# Altium footprint library CONN_HDR_2.54MM_ST.PcbLib: 159 footprints (part 13 of 13)
Each footprint in its own frame and in the unit in brackets; x right, y up, seen from the top. Pads: shape width x height; smd on the part's side, far side on the other; paste and mask are expansions set on the pad; w line width, h text height; cw(c..) or ccw(c..) is an arc to the next point about the centre after c.
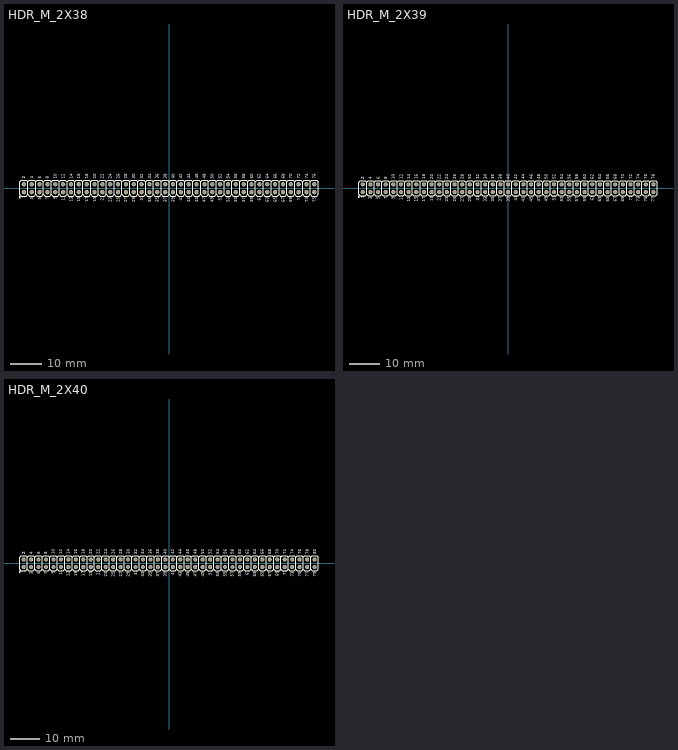
[diagram p12: the footprints below, top view; thin cyan lines are the x and y axes]

## HDR_M_2X38 [mm] "Male Header 2X38 with 2.54 mm Pitch"
pads (76):
  round 1.4 / inner round 1.4 / far side oval 1.4x2.2 hole 1: 1(-46.99,-1.27) 2(-46.99,1.27) 3(-44.45,-1.27) 4(-44.45,1.27) 5(-41.91,-1.27) 6(-41.91,1.27) 7(-39.37,-1.27) 8(-39.37,1.27) 9(-36.83,-1.27) 10(-36.83,1.27) 11(-34.29,-1.27) 12(-34.29,1.27) 13(-31.75,-1.27) 14(-31.75,1.27) 15(-29.21,-1.27) 16(-29.21,1.27) 17(-26.67,-1.27) 18(-26.67,1.27) 19(-24.13,-1.27) 20(-24.13,1.27) 21(-21.59,-1.27) 22(-21.59,1.27) 23(-19.05,-1.27) 24(-19.05,1.27) 25(-16.51,-1.27) 26(-16.51,1.27) 27(-13.97,-1.27) 28(-13.97,1.27) 29(-11.43,-1.27) 30(-11.43,1.27) 31(-8.89,-1.27) 32(-8.89,1.27) 33(-6.35,-1.27) 34(-6.35,1.27) 35(-3.81,-1.27) 36(-3.81,1.27) 37(-1.27,-1.27) 38(-1.27,1.27) 39(1.27,-1.27) 40(1.27,1.27) 41(3.81,-1.27) 42(3.81,1.27) 43(6.35,-1.27) 44(6.35,1.27) 45(8.89,-1.27) 46(8.89,1.27) 47(11.43,-1.27) 48(11.43,1.27) 49(13.97,-1.27) 50(13.97,1.27) 51(16.51,-1.27) 52(16.51,1.27) 53(19.05,-1.27) 54(19.05,1.27) 55(21.59,-1.27) 56(21.59,1.27) 57(24.13,-1.27) 58(24.13,1.27) 59(26.67,-1.27) 60(26.67,1.27) 61(29.21,-1.27) 62(29.21,1.27) 63(31.75,-1.27) 64(31.75,1.27) 65(34.29,-1.27) 66(34.29,1.27) 67(36.83,-1.27) 68(36.83,1.27) 69(39.37,-1.27) 70(39.37,1.27) 71(41.91,-1.27) 72(41.91,1.27) 73(44.45,-1.27) 74(44.45,1.27) 75(46.99,-1.27) 76(46.99,1.27)
TopOverlay:
  drawing of 268 lines, arcs and shapes, not listed
  text "1" at -46.482,-3.253 h1
  text "2" at -46.482,3.048 h1
  text "2" at -46.482,3.048 h1
  text "1" at -46.482,-3.253 h1
  text "4" at -43.942,3.048 h1
  text "3" at -43.942,-3.682 h1
  text "6" at -41.402,3.048 h1
  text "5" at -41.402,-3.682 h1
  text "8" at -38.862,3.048 h1
  text "7" at -38.862,-3.682 h1
  text "10" at -36.322,3.048 h1
  text "9" at -36.322,-3.634 h1
  text "12" at -33.782,3.048 h1
  text "11" at -33.782,-3.986 h1
  text "14" at -31.242,3.048 h1
  text "13" at -31.242,-4.415 h1
  text "16" at -28.702,3.048 h1
  text "15" at -28.702,-4.415 h1
  text "18" at -26.162,3.048 h1
  text "17" at -26.162,-4.415 h1
  text "20" at -23.622,3.048 h1
  text "19" at -23.622,-4.367 h1
  text "22" at -21.082,3.048 h1
  text "21" at -21.082,-4.144 h1
  text "24" at -18.542,3.048 h1
  text "23" at -18.542,-4.572 h1
  text "26" at -16.002,3.048 h1
  text "25" at -16.002,-4.572 h1
  text "28" at -13.462,3.048 h1
  text "27" at -13.462,-4.572 h1
  text "30" at -10.922,3.048 h1
  text "29" at -10.922,-4.524 h1
  text "32" at -8.382,3.048 h1
  text "31" at -8.382,-4.144 h1
  text "34" at -5.842,3.048 h1
  text "33" at -5.842,-4.572 h1
  text "36" at -3.302,3.048 h1
  text "35" at -3.302,-4.572 h1
  text "38" at -0.762,3.048 h1
  text "37" at -0.762,-4.572 h1
  text "40" at 1.778,3.048 h1
  text "39" at 1.778,-4.524 h1
  text "42" at 4.318,3.048 h1
  text "41" at 4.318,-4.144 h1
  text "44" at 6.858,3.048 h1
  text "43" at 6.858,-4.572 h1
  text "46" at 9.398,3.048 h1
  text "45" at 9.398,-4.572 h1
  text "48" at 11.938,3.048 h1
  text "47" at 11.938,-4.572 h1
  text "50" at 14.478,3.048 h1
  text "49" at 14.478,-4.524 h1
  text "52" at 17.018,3.048 h1
  text "51" at 17.018,-4.144 h1
  text "54" at 19.558,3.048 h1
  text "53" at 19.558,-4.572 h1
  text "56" at 22.098,3.048 h1
  text "55" at 22.098,-4.572 h1
  text "58" at 24.638,3.048 h1
  text "57" at 24.638,-4.572 h1
  text "60" at 27.178,3.048 h1
  text "59" at 27.178,-4.524 h1
  text "62" at 29.718,3.048 h1
  text "61" at 29.718,-4.091 h1
  text "64" at 32.258,3.048 h1
  text "63" at 32.258,-4.52 h1
  text "66" at 34.798,3.048 h1
  text "65" at 34.798,-4.52 h1
  text "68" at 37.338,3.048 h1
  text "67" at 37.338,-4.52 h1
  text "70" at 39.878,3.048 h1
  text "69" at 39.878,-4.472 h1
  text "72" at 42.418,3.048 h1
  text "71" at 42.418,-4.144 h1
  text "74" at 44.958,3.048 h1
  text "73" at 44.958,-4.572 h1
  text "76" at 47.498,3.048 h1
  text "75" at 47.498,-4.572 h1
3D body "PIN.STEP": height 8.43, standoff -2.49, extent -48.26,-2.54 -45.72,0
3D body "PIN_mid.STEP": height 8.43, standoff -2.49, extent -43.18,0 -40.64,2.54
3D body "PIN_mid.STEP": height 8.43, standoff -2.49, extent -40.64,0 -38.1,2.54
3D body "PIN_mid.STEP": height 8.43, standoff -2.49, extent -38.1,0 -35.56,2.54
3D body "PIN_mid.STEP": height 8.43, standoff -2.49, extent -35.56,0 -33.02,2.54
3D body "PIN_mid.STEP": height 8.43, standoff -2.49, extent -33.02,0 -30.48,2.54
3D body "PIN_mid.STEP": height 8.43, standoff -2.49, extent -30.48,0 -27.94,2.54
3D body "PIN_mid.STEP": height 8.43, standoff -2.49, extent -27.94,0 -25.4,2.54
3D body "PIN_mid.STEP": height 8.43, standoff -2.49, extent -25.4,0 -22.86,2.54
3D body "PIN_mid.STEP": height 8.43, standoff -2.49, extent -22.86,0 -20.32,2.54
3D body "PIN_mid.STEP": height 8.43, standoff -2.49, extent -20.32,0 -17.78,2.54
3D body "PIN_mid.STEP": height 8.43, standoff -2.49, extent -17.78,0 -15.24,2.54
3D body "PIN_mid.STEP": height 8.43, standoff -2.49, extent -15.24,0 -12.7,2.54
3D body "PIN_mid.STEP": height 8.43, standoff -2.49, extent -12.7,0 -10.16,2.54
3D body "PIN_mid.STEP": height 8.43, standoff -2.49, extent -10.16,0 -7.62,2.54
3D body "PIN_mid.STEP": height 8.43, standoff -2.49, extent -7.62,0 -5.08,2.54
3D body "PIN_mid.STEP": height 8.43, standoff -2.49, extent -5.08,0 -2.54,2.54
3D body "PIN_mid.STEP": height 8.43, standoff -2.49, extent -2.54,0 0,2.54
3D body "PIN_mid.STEP": height 8.43, standoff -2.49, extent 0,0 2.54,2.54
3D body "PIN_mid.STEP": height 8.43, standoff -2.49, extent 2.54,0 5.08,2.54
3D body "PIN_mid.STEP": height 8.43, standoff -2.49, extent 5.08,0 7.62,2.54
3D body "PIN_mid.STEP": height 8.43, standoff -2.49, extent 7.62,0 10.16,2.54
3D body "PIN_mid.STEP": height 8.43, standoff -2.49, extent 10.16,0 12.7,2.54
3D body "PIN_mid.STEP": height 8.43, standoff -2.49, extent 12.7,0 15.24,2.54
3D body "PIN_mid.STEP": height 8.43, standoff -2.49, extent 15.24,0 17.78,2.54
3D body "PIN_mid.STEP": height 8.43, standoff -2.49, extent 17.78,0 20.32,2.54
3D body "PIN_mid.STEP": height 8.43, standoff -2.49, extent 20.32,0 22.86,2.54
3D body "PIN_mid.STEP": height 8.43, standoff -2.49, extent 22.86,0 25.4,2.54
3D body "PIN_mid.STEP": height 8.43, standoff -2.49, extent 25.4,0 27.94,2.54
3D body "PIN_mid.STEP": height 8.43, standoff -2.49, extent 27.94,0 30.48,2.54
3D body "PIN_mid.STEP": height 8.43, standoff -2.49, extent 30.48,0 33.02,2.54
3D body "PIN_mid.STEP": height 8.43, standoff -2.49, extent 33.02,0 35.56,2.54
3D body "PIN_mid.STEP": height 8.43, standoff -2.49, extent 35.56,0 38.1,2.54
3D body "PIN_mid.STEP": height 8.43, standoff -2.49, extent 38.1,0 40.64,2.54
3D body "PIN_mid.STEP": height 8.43, standoff -2.49, extent 40.64,0 43.18,2.54
3D body "PIN_mid.STEP": height 8.43, standoff -2.49, extent 43.18,0 45.72,2.54
3D body "PIN_mid.STEP": height 8.43, standoff -2.49, extent -45.72,0 -43.18,2.54
3D body "PIN_mid.STEP": height 8.43, standoff -2.49, extent -45.72,-2.54 -43.18,0
3D body "PIN_mid.STEP": height 8.43, standoff -2.49, extent -43.18,-2.54 -40.64,0
3D body "PIN_mid.STEP": height 8.43, standoff -2.49, extent -40.64,-2.54 -38.1,0
3D body "PIN_mid.STEP": height 8.43, standoff -2.49, extent -38.1,-2.54 -35.56,0
3D body "PIN_mid.STEP": height 8.43, standoff -2.49, extent -35.56,-2.54 -33.02,0
3D body "PIN_mid.STEP": height 8.43, standoff -2.49, extent -33.02,-2.54 -30.48,0
3D body "PIN_mid.STEP": height 8.43, standoff -2.49, extent -30.48,-2.54 -27.94,0
3D body "PIN_mid.STEP": height 8.43, standoff -2.49, extent -27.94,-2.54 -25.4,0
3D body "PIN_mid.STEP": height 8.43, standoff -2.49, extent -25.4,-2.54 -22.86,0
3D body "PIN_mid.STEP": height 8.43, standoff -2.49, extent -22.86,-2.54 -20.32,0
3D body "PIN_mid.STEP": height 8.43, standoff -2.49, extent -20.32,-2.54 -17.78,0
3D body "PIN_mid.STEP": height 8.43, standoff -2.49, extent -17.78,-2.54 -15.24,0
3D body "PIN_mid.STEP": height 8.43, standoff -2.49, extent -15.24,-2.54 -12.7,0
3D body "PIN_mid.STEP": height 8.43, standoff -2.49, extent -12.7,-2.54 -10.16,0
3D body "PIN_mid.STEP": height 8.43, standoff -2.49, extent -10.16,-2.54 -7.62,0
3D body "PIN_mid.STEP": height 8.43, standoff -2.49, extent -7.62,-2.54 -5.08,0
3D body "PIN_mid.STEP": height 8.43, standoff -2.49, extent -5.08,-2.54 -2.54,0
3D body "PIN_mid.STEP": height 8.43, standoff -2.49, extent -2.54,-2.54 0,0
3D body "PIN_mid.STEP": height 8.43, standoff -2.49, extent 0,-2.54 2.54,0
3D body "PIN_mid.STEP": height 8.43, standoff -2.49, extent 2.54,-2.54 5.08,0
3D body "PIN_mid.STEP": height 8.43, standoff -2.49, extent 5.08,-2.54 7.62,0
3D body "PIN_mid.STEP": height 8.43, standoff -2.49, extent 7.62,-2.54 10.16,0
3D body "PIN_mid.STEP": height 8.43, standoff -2.49, extent 10.16,-2.54 12.7,0
3D body "PIN_mid.STEP": height 8.43, standoff -2.49, extent 12.7,-2.54 15.24,0
3D body "PIN_mid.STEP": height 8.43, standoff -2.49, extent 15.24,-2.54 17.78,0
3D body "PIN_mid.STEP": height 8.43, standoff -2.49, extent 17.78,-2.54 20.32,0
3D body "PIN_mid.STEP": height 8.43, standoff -2.49, extent 20.32,-2.54 22.86,0
3D body "PIN_mid.STEP": height 8.43, standoff -2.49, extent 22.86,-2.54 25.4,0
3D body "PIN_mid.STEP": height 8.43, standoff -2.49, extent 25.4,-2.54 27.94,0
3D body "PIN_mid.STEP": height 8.43, standoff -2.49, extent 27.94,-2.54 30.48,0
3D body "PIN_mid.STEP": height 8.43, standoff -2.49, extent 30.48,-2.54 33.02,0
3D body "PIN_mid.STEP": height 8.43, standoff -2.49, extent 33.02,-2.54 35.56,0
3D body "PIN_mid.STEP": height 8.43, standoff -2.49, extent 35.56,-2.54 38.1,0
3D body "PIN_mid.STEP": height 8.43, standoff -2.49, extent 38.1,-2.54 40.64,0
3D body "PIN_mid.STEP": height 8.43, standoff -2.49, extent 40.64,-2.54 43.18,0
3D body "PIN_mid.STEP": height 8.43, standoff -2.49, extent 43.18,-2.54 45.72,0
3D body "PIN.STEP": height 8.43, standoff -2.49, extent -48.26,0 -45.72,2.54
3D body "PIN.STEP": height 8.43, standoff -2.49, extent 45.72,0 48.26,2.54
3D body "PIN.STEP": height 8.43, standoff -2.49, extent 45.72,-2.54 48.26,0

## HDR_M_2X39 [mm] "Male Header with 2.54 mm Pitch"
pads (78):
  round 1.4 / inner round 1.4 / far side oval 1.4x2.2 hole 1: 1(-48.26,-1.27) 2(-48.26,1.27) 3(-45.72,-1.27) 4(-45.72,1.27) 5(-43.18,-1.27) 6(-43.18,1.27) 7(-40.64,-1.27) 8(-40.64,1.27) 9(-38.1,-1.27) 10(-38.1,1.27) 11(-35.56,-1.27) 12(-35.56,1.27) 13(-33.02,-1.27) 14(-33.02,1.27) 15(-30.48,-1.27) 16(-30.48,1.27) 17(-27.94,-1.27) 18(-27.94,1.27) 19(-25.4,-1.27) 20(-25.4,1.27) 21(-22.86,-1.27) 22(-22.86,1.27) 23(-20.32,-1.27) 24(-20.32,1.27) 25(-17.78,-1.27) 26(-17.78,1.27) 27(-15.24,-1.27) 28(-15.24,1.27) 29(-12.7,-1.27) 30(-12.7,1.27) 31(-10.16,-1.27) 32(-10.16,1.27) 33(-7.62,-1.27) 34(-7.62,1.27) 35(-5.08,-1.27) 36(-5.08,1.27) 37(-2.54,-1.27) 38(-2.54,1.27) 39(0,-1.27) 40(0,1.27) 41(2.54,-1.27) 42(2.54,1.27) 43(5.08,-1.27) 44(5.08,1.27) 45(7.62,-1.27) 46(7.62,1.27) 47(10.16,-1.27) 48(10.16,1.27) 49(12.7,-1.27) 50(12.7,1.27) 51(15.24,-1.27) 52(15.24,1.27) 53(17.78,-1.27) 54(17.78,1.27) 55(20.32,-1.27) 56(20.32,1.27) 57(22.86,-1.27) 58(22.86,1.27) 59(25.4,-1.27) 60(25.4,1.27) 61(27.94,-1.27) 62(27.94,1.27) 63(30.48,-1.27) 64(30.48,1.27) 65(33.02,-1.27) 66(33.02,1.27) 67(35.56,-1.27) 68(35.56,1.27) 69(38.1,-1.27) 70(38.1,1.27) 71(40.64,-1.27) 72(40.64,1.27) 73(43.18,-1.27) 74(43.18,1.27) 75(45.72,-1.27) 76(45.72,1.27) 77(48.26,-1.27) 78(48.26,1.27)
TopOverlay:
  drawing of 275 lines, arcs and shapes, not listed
  text "77" at 48.768,-4.572 h1
  text "78" at 48.768,3.048 h1
  text "75" at 46.228,-4.572 h1
  text "76" at 46.228,3.048 h1
  text "73" at 43.688,-4.572 h1
  text "74" at 43.688,3.048 h1
  text "71" at 41.148,-4.144 h1
  text "72" at 41.148,3.048 h1
  text "69" at 38.608,-4.472 h1
  text "70" at 38.608,3.048 h1
  text "67" at 36.068,-4.52 h1
  text "68" at 36.068,3.048 h1
  text "65" at 33.528,-4.52 h1
  text "66" at 33.528,3.048 h1
  text "63" at 30.988,-4.52 h1
  text "64" at 30.988,3.048 h1
  text "61" at 28.448,-4.091 h1
  text "62" at 28.448,3.048 h1
  text "59" at 25.908,-4.524 h1
  text "60" at 25.908,3.048 h1
  text "57" at 23.368,-4.572 h1
  text "58" at 23.368,3.048 h1
  text "55" at 20.828,-4.572 h1
  text "56" at 20.828,3.048 h1
  text "53" at 18.288,-4.572 h1
  text "54" at 18.288,3.048 h1
  text "51" at 15.748,-4.144 h1
  text "52" at 15.748,3.048 h1
  text "49" at 13.208,-4.524 h1
  text "50" at 13.208,3.048 h1
  text "47" at 10.668,-4.572 h1
  text "48" at 10.668,3.048 h1
  text "45" at 8.128,-4.572 h1
  text "46" at 8.128,3.048 h1
  text "43" at 5.588,-4.572 h1
  text "44" at 5.588,3.048 h1
  text "41" at 3.048,-4.144 h1
  text "42" at 3.048,3.048 h1
  text "39" at 0.508,-4.524 h1
  text "40" at 0.508,3.048 h1
  text "37" at -2.032,-4.572 h1
  text "38" at -2.032,3.048 h1
  text "35" at -4.572,-4.572 h1
  text "36" at -4.572,3.048 h1
  text "33" at -7.112,-4.572 h1
  text "34" at -7.112,3.048 h1
  text "31" at -9.652,-4.144 h1
  text "32" at -9.652,3.048 h1
  text "29" at -12.192,-4.524 h1
  text "30" at -12.192,3.048 h1
  text "27" at -14.732,-4.572 h1
  text "28" at -14.732,3.048 h1
  text "25" at -17.272,-4.572 h1
  text "26" at -17.272,3.048 h1
  text "23" at -19.812,-4.572 h1
  text "24" at -19.812,3.048 h1
  text "21" at -22.352,-4.144 h1
  text "22" at -22.352,3.048 h1
  text "19" at -24.892,-4.367 h1
  text "20" at -24.892,3.048 h1
  text "17" at -27.432,-4.415 h1
  text "18" at -27.432,3.048 h1
  text "15" at -29.972,-4.415 h1
  text "16" at -29.972,3.048 h1
  text "13" at -32.512,-4.415 h1
  text "14" at -32.512,3.048 h1
  text "11" at -35.052,-3.986 h1
  text "12" at -35.052,3.048 h1
  text "9" at -37.592,-3.634 h1
  text "10" at -37.592,3.048 h1
  text "7" at -40.132,-3.682 h1
  text "8" at -40.132,3.048 h1
  text "5" at -42.672,-3.682 h1
  text "6" at -42.672,3.048 h1
  text "3" at -45.212,-3.682 h1
  text "4" at -45.212,3.048 h1
  text "1" at -47.752,-3.253 h1
  text "2" at -47.752,3.048 h1
  text "2" at -47.752,3.048 h1
  text "1" at -47.752,-3.253 h1
3D body "PIN.STEP": height 8.43, standoff -2.49, extent -49.53,0 -46.99,2.54
3D body "PIN_mid.STEP": height 8.43, standoff -2.49, extent 46.99,-2.54 49.53,0
3D body "PIN_mid.STEP": height 8.43, standoff -2.49, extent 44.45,-2.54 46.99,0
3D body "PIN_mid.STEP": height 8.43, standoff -2.49, extent 41.91,-2.54 44.45,0
3D body "PIN_mid.STEP": height 8.43, standoff -2.49, extent 39.37,-2.54 41.91,0
3D body "PIN_mid.STEP": height 8.43, standoff -2.49, extent 36.83,-2.54 39.37,0
3D body "PIN_mid.STEP": height 8.43, standoff -2.49, extent 34.29,-2.54 36.83,0
3D body "PIN_mid.STEP": height 8.43, standoff -2.49, extent 31.75,-2.54 34.29,0
3D body "PIN_mid.STEP": height 8.43, standoff -2.49, extent 29.21,-2.54 31.75,0
3D body "PIN_mid.STEP": height 8.43, standoff -2.49, extent 26.67,-2.54 29.21,0
3D body "PIN_mid.STEP": height 8.43, standoff -2.49, extent 24.13,-2.54 26.67,0
3D body "PIN_mid.STEP": height 8.43, standoff -2.49, extent 21.59,-2.54 24.13,0
3D body "PIN_mid.STEP": height 8.43, standoff -2.49, extent 19.05,-2.54 21.59,0
3D body "PIN_mid.STEP": height 8.43, standoff -2.49, extent 16.51,-2.54 19.05,0
3D body "PIN_mid.STEP": height 8.43, standoff -2.49, extent 13.97,-2.54 16.51,0
3D body "PIN_mid.STEP": height 8.43, standoff -2.49, extent 11.43,-2.54 13.97,0
3D body "PIN_mid.STEP": height 8.43, standoff -2.49, extent 8.89,-2.54 11.43,0
3D body "PIN_mid.STEP": height 8.43, standoff -2.49, extent 6.35,-2.54 8.89,0
3D body "PIN_mid.STEP": height 8.43, standoff -2.49, extent 3.81,-2.54 6.35,0
3D body "PIN_mid.STEP": height 8.43, standoff -2.49, extent 1.27,-2.54 3.81,0
3D body "PIN_mid.STEP": height 8.43, standoff -2.49, extent -1.27,-2.54 1.27,0
3D body "PIN_mid.STEP": height 8.43, standoff -2.49, extent -3.81,-2.54 -1.27,0
3D body "PIN_mid.STEP": height 8.43, standoff -2.49, extent -6.35,-2.54 -3.81,0
3D body "PIN_mid.STEP": height 8.43, standoff -2.49, extent -8.89,-2.54 -6.35,0
3D body "PIN_mid.STEP": height 8.43, standoff -2.49, extent -11.43,-2.54 -8.89,0
3D body "PIN_mid.STEP": height 8.43, standoff -2.49, extent -13.97,-2.54 -11.43,0
3D body "PIN_mid.STEP": height 8.43, standoff -2.49, extent -16.51,-2.54 -13.97,0
3D body "PIN_mid.STEP": height 8.43, standoff -2.49, extent -19.05,-2.54 -16.51,0
3D body "PIN_mid.STEP": height 8.43, standoff -2.49, extent -21.59,-2.54 -19.05,0
3D body "PIN_mid.STEP": height 8.43, standoff -2.49, extent -24.13,-2.54 -21.59,0
3D body "PIN_mid.STEP": height 8.43, standoff -2.49, extent -26.67,-2.54 -24.13,0
3D body "PIN_mid.STEP": height 8.43, standoff -2.49, extent -29.21,-2.54 -26.67,0
3D body "PIN_mid.STEP": height 8.43, standoff -2.49, extent -31.75,-2.54 -29.21,0
3D body "PIN_mid.STEP": height 8.43, standoff -2.49, extent -34.29,-2.54 -31.75,0
3D body "PIN_mid.STEP": height 8.43, standoff -2.49, extent -36.83,-2.54 -34.29,0
3D body "PIN_mid.STEP": height 8.43, standoff -2.49, extent -39.37,-2.54 -36.83,0
3D body "PIN_mid.STEP": height 8.43, standoff -2.49, extent -41.91,-2.54 -39.37,0
3D body "PIN_mid.STEP": height 8.43, standoff -2.49, extent -44.45,-2.54 -41.91,0
3D body "PIN_mid.STEP": height 8.43, standoff -2.49, extent -46.99,-2.54 -44.45,0
3D body "PIN_mid.STEP": height 8.43, standoff -2.49, extent -46.99,0 -44.45,2.54
3D body "PIN_mid.STEP": height 8.43, standoff -2.49, extent 46.99,0 49.53,2.54
3D body "PIN_mid.STEP": height 8.43, standoff -2.49, extent 44.45,0 46.99,2.54
3D body "PIN_mid.STEP": height 8.43, standoff -2.49, extent 41.91,0 44.45,2.54
3D body "PIN_mid.STEP": height 8.43, standoff -2.49, extent 39.37,0 41.91,2.54
3D body "PIN_mid.STEP": height 8.43, standoff -2.49, extent 36.83,0 39.37,2.54
3D body "PIN_mid.STEP": height 8.43, standoff -2.49, extent 34.29,0 36.83,2.54
3D body "PIN_mid.STEP": height 8.43, standoff -2.49, extent 31.75,0 34.29,2.54
3D body "PIN_mid.STEP": height 8.43, standoff -2.49, extent 29.21,0 31.75,2.54
3D body "PIN_mid.STEP": height 8.43, standoff -2.49, extent 26.67,0 29.21,2.54
3D body "PIN_mid.STEP": height 8.43, standoff -2.49, extent 24.13,0 26.67,2.54
3D body "PIN_mid.STEP": height 8.43, standoff -2.49, extent 21.59,0 24.13,2.54
3D body "PIN_mid.STEP": height 8.43, standoff -2.49, extent 19.05,0 21.59,2.54
3D body "PIN_mid.STEP": height 8.43, standoff -2.49, extent 16.51,0 19.05,2.54
3D body "PIN_mid.STEP": height 8.43, standoff -2.49, extent 13.97,0 16.51,2.54
3D body "PIN_mid.STEP": height 8.43, standoff -2.49, extent 11.43,0 13.97,2.54
3D body "PIN_mid.STEP": height 8.43, standoff -2.49, extent 8.89,0 11.43,2.54
3D body "PIN_mid.STEP": height 8.43, standoff -2.49, extent 6.35,0 8.89,2.54
3D body "PIN_mid.STEP": height 8.43, standoff -2.49, extent 3.81,0 6.35,2.54
3D body "PIN_mid.STEP": height 8.43, standoff -2.49, extent 1.27,0 3.81,2.54
3D body "PIN_mid.STEP": height 8.43, standoff -2.49, extent -1.27,0 1.27,2.54
3D body "PIN_mid.STEP": height 8.43, standoff -2.49, extent -3.81,0 -1.27,2.54
3D body "PIN_mid.STEP": height 8.43, standoff -2.49, extent -6.35,0 -3.81,2.54
3D body "PIN_mid.STEP": height 8.43, standoff -2.49, extent -8.89,0 -6.35,2.54
3D body "PIN_mid.STEP": height 8.43, standoff -2.49, extent -11.43,0 -8.89,2.54
3D body "PIN_mid.STEP": height 8.43, standoff -2.49, extent -13.97,0 -11.43,2.54
3D body "PIN_mid.STEP": height 8.43, standoff -2.49, extent -16.51,0 -13.97,2.54
3D body "PIN_mid.STEP": height 8.43, standoff -2.49, extent -19.05,0 -16.51,2.54
3D body "PIN_mid.STEP": height 8.43, standoff -2.49, extent -21.59,0 -19.05,2.54
3D body "PIN_mid.STEP": height 8.43, standoff -2.49, extent -24.13,0 -21.59,2.54
3D body "PIN_mid.STEP": height 8.43, standoff -2.49, extent -26.67,0 -24.13,2.54
3D body "PIN_mid.STEP": height 8.43, standoff -2.49, extent -29.21,0 -26.67,2.54
3D body "PIN_mid.STEP": height 8.43, standoff -2.49, extent -31.75,0 -29.21,2.54
3D body "PIN_mid.STEP": height 8.43, standoff -2.49, extent -34.29,0 -31.75,2.54
3D body "PIN_mid.STEP": height 8.43, standoff -2.49, extent -36.83,0 -34.29,2.54
3D body "PIN_mid.STEP": height 8.43, standoff -2.49, extent -39.37,0 -36.83,2.54
3D body "PIN_mid.STEP": height 8.43, standoff -2.49, extent -41.91,0 -39.37,2.54
3D body "PIN_mid.STEP": height 8.43, standoff -2.49, extent -44.45,0 -41.91,2.54
3D body "PIN.STEP": height 8.43, standoff -2.49, extent -49.53,-2.54 -46.99,0

## HDR_M_2X40 [mm] "Male Header 2X40 with 2.54 mm Pitch"
pads (80):
  round 1.4 / inner round 1.4 / far side oval 1.4x2.2 hole 1: 1(-49.53,-1.27) 2(-49.53,1.27) 3(-46.99,-1.27) 4(-46.99,1.27) 5(-44.45,-1.27) 6(-44.45,1.27) 7(-41.91,-1.27) 8(-41.91,1.27) 9(-39.37,-1.27) 10(-39.37,1.27) 11(-36.83,-1.27) 12(-36.83,1.27) 13(-34.29,-1.27) 14(-34.29,1.27) 15(-31.75,-1.27) 16(-31.75,1.27) 17(-29.21,-1.27) 18(-29.21,1.27) 19(-26.67,-1.27) 20(-26.67,1.27) 21(-24.13,-1.27) 22(-24.13,1.27) 23(-21.59,-1.27) 24(-21.59,1.27) 25(-19.05,-1.27) 26(-19.05,1.27) 27(-16.51,-1.27) 28(-16.51,1.27) 29(-13.97,-1.27) 30(-13.97,1.27) 31(-11.43,-1.27) 32(-11.43,1.27) 33(-8.89,-1.27) 34(-8.89,1.27) 35(-6.35,-1.27) 36(-6.35,1.27) 37(-3.81,-1.27) 38(-3.81,1.27) 39(-1.27,-1.27) 40(-1.27,1.27) 41(1.27,-1.27) 42(1.27,1.27) 43(3.81,-1.27) 44(3.81,1.27) 45(6.35,-1.27) 46(6.35,1.27) 47(8.89,-1.27) 48(8.89,1.27) 49(11.43,-1.27) 50(11.43,1.27) 51(13.97,-1.27) 52(13.97,1.27) 53(16.51,-1.27) 54(16.51,1.27) 55(19.05,-1.27) 56(19.05,1.27) 57(21.59,-1.27) 58(21.59,1.27) 59(24.13,-1.27) 60(24.13,1.27) 61(26.67,-1.27) 62(26.67,1.27) 63(29.21,-1.27) 64(29.21,1.27) 65(31.75,-1.27) 66(31.75,1.27) 67(34.29,-1.27) 68(34.29,1.27) 69(36.83,-1.27) 70(36.83,1.27) 71(39.37,-1.27) 72(39.37,1.27) 73(41.91,-1.27) 74(41.91,1.27) 75(44.45,-1.27) 76(44.45,1.27) 77(46.99,-1.27) 78(46.99,1.27) 79(49.53,-1.27) 80(49.53,1.27)
TopOverlay:
  drawing of 282 lines, arcs and shapes, not listed
  text "1" at -49.022,-3.253 h1
  text "2" at -49.022,3.048 h1
  text "2" at -49.022,3.048 h1
  text "1" at -49.022,-3.253 h1
  text "4" at -46.482,3.048 h1
  text "3" at -46.482,-3.682 h1
  text "6" at -43.942,3.048 h1
  text "5" at -43.942,-3.682 h1
  text "8" at -41.402,3.048 h1
  text "7" at -41.402,-3.682 h1
  text "10" at -38.862,3.048 h1
  text "9" at -38.862,-3.634 h1
  text "12" at -36.322,3.048 h1
  text "11" at -36.322,-3.986 h1
  text "14" at -33.782,3.048 h1
  text "13" at -33.782,-4.415 h1
  text "16" at -31.242,3.048 h1
  text "15" at -31.242,-4.415 h1
  text "18" at -28.702,3.048 h1
  text "17" at -28.702,-4.415 h1
  text "20" at -26.162,3.048 h1
  text "19" at -26.162,-4.367 h1
  text "22" at -23.622,3.048 h1
  text "21" at -23.622,-4.144 h1
  text "24" at -21.082,3.048 h1
  text "23" at -21.082,-4.572 h1
  text "26" at -18.542,3.048 h1
  text "25" at -18.542,-4.572 h1
  text "28" at -16.002,3.048 h1
  text "27" at -16.002,-4.572 h1
  text "30" at -13.462,3.048 h1
  text "29" at -13.462,-4.524 h1
  text "32" at -10.922,3.048 h1
  text "31" at -10.922,-4.144 h1
  text "34" at -8.382,3.048 h1
  text "33" at -8.382,-4.572 h1
  text "36" at -5.842,3.048 h1
  text "35" at -5.842,-4.572 h1
  text "38" at -3.302,3.048 h1
  text "37" at -3.302,-4.572 h1
  text "40" at -0.762,3.048 h1
  text "39" at -0.762,-4.524 h1
  text "42" at 1.778,3.048 h1
  text "41" at 1.778,-4.144 h1
  text "44" at 4.318,3.048 h1
  text "43" at 4.318,-4.572 h1
  text "46" at 6.858,3.048 h1
  text "45" at 6.858,-4.572 h1
  text "48" at 9.398,3.048 h1
  text "47" at 9.398,-4.572 h1
  text "50" at 11.938,3.048 h1
  text "49" at 11.938,-4.524 h1
  text "52" at 14.478,3.048 h1
  text "51" at 14.478,-4.144 h1
  text "54" at 17.018,3.048 h1
  text "53" at 17.018,-4.572 h1
  text "56" at 19.558,3.048 h1
  text "55" at 19.558,-4.572 h1
  text "58" at 22.098,3.048 h1
  text "57" at 22.098,-4.572 h1
  text "60" at 24.638,3.048 h1
  text "59" at 24.638,-4.524 h1
  text "62" at 27.178,3.048 h1
  text "61" at 27.178,-4.091 h1
  text "64" at 29.718,3.048 h1
  text "63" at 29.718,-4.52 h1
  text "66" at 32.258,3.048 h1
  text "65" at 32.258,-4.52 h1
  text "68" at 34.798,3.048 h1
  text "67" at 34.798,-4.52 h1
  text "70" at 37.338,3.048 h1
  text "69" at 37.338,-4.472 h1
  text "72" at 39.878,3.048 h1
  text "71" at 39.878,-4.144 h1
  text "74" at 42.418,3.048 h1
  text "73" at 42.418,-4.572 h1
  text "76" at 44.958,3.048 h1
  text "75" at 44.958,-4.572 h1
  text "78" at 47.498,3.048 h1
  text "77" at 47.498,-4.572 h1
  text "80" at 50.038,3.048 h1
  text "79" at 50.038,-4.524 h1
3D body "PIN.STEP": height 8.43, standoff -2.49, extent -50.8,-2.54 -48.26,0
3D body "PIN_mid.STEP": height 8.43, standoff -2.49, extent -45.72,0 -43.18,2.54
3D body "PIN_mid.STEP": height 8.43, standoff -2.49, extent -43.18,0 -40.64,2.54
3D body "PIN_mid.STEP": height 8.43, standoff -2.49, extent -40.64,0 -38.1,2.54
3D body "PIN_mid.STEP": height 8.43, standoff -2.49, extent -38.1,0 -35.56,2.54
3D body "PIN_mid.STEP": height 8.43, standoff -2.49, extent -35.56,0 -33.02,2.54
3D body "PIN_mid.STEP": height 8.43, standoff -2.49, extent -33.02,0 -30.48,2.54
3D body "PIN_mid.STEP": height 8.43, standoff -2.49, extent -30.48,0 -27.94,2.54
3D body "PIN_mid.STEP": height 8.43, standoff -2.49, extent -27.94,0 -25.4,2.54
3D body "PIN_mid.STEP": height 8.43, standoff -2.49, extent -25.4,0 -22.86,2.54
3D body "PIN_mid.STEP": height 8.43, standoff -2.49, extent -22.86,0 -20.32,2.54
3D body "PIN_mid.STEP": height 8.43, standoff -2.49, extent -20.32,0 -17.78,2.54
3D body "PIN_mid.STEP": height 8.43, standoff -2.49, extent -17.78,0 -15.24,2.54
3D body "PIN_mid.STEP": height 8.43, standoff -2.49, extent -15.24,0 -12.7,2.54
3D body "PIN_mid.STEP": height 8.43, standoff -2.49, extent -12.7,0 -10.16,2.54
3D body "PIN_mid.STEP": height 8.43, standoff -2.49, extent -10.16,0 -7.62,2.54
3D body "PIN_mid.STEP": height 8.43, standoff -2.49, extent -7.62,0 -5.08,2.54
3D body "PIN_mid.STEP": height 8.43, standoff -2.49, extent -5.08,0 -2.54,2.54
3D body "PIN_mid.STEP": height 8.43, standoff -2.49, extent -2.54,0 0,2.54
3D body "PIN_mid.STEP": height 8.43, standoff -2.49, extent 0,0 2.54,2.54
3D body "PIN_mid.STEP": height 8.43, standoff -2.49, extent 2.54,0 5.08,2.54
3D body "PIN_mid.STEP": height 8.43, standoff -2.49, extent 5.08,0 7.62,2.54
3D body "PIN_mid.STEP": height 8.43, standoff -2.49, extent 7.62,0 10.16,2.54
3D body "PIN_mid.STEP": height 8.43, standoff -2.49, extent 10.16,0 12.7,2.54
3D body "PIN_mid.STEP": height 8.43, standoff -2.49, extent 12.7,0 15.24,2.54
3D body "PIN_mid.STEP": height 8.43, standoff -2.49, extent 15.24,0 17.78,2.54
3D body "PIN_mid.STEP": height 8.43, standoff -2.49, extent 17.78,0 20.32,2.54
3D body "PIN_mid.STEP": height 8.43, standoff -2.49, extent 20.32,0 22.86,2.54
3D body "PIN_mid.STEP": height 8.43, standoff -2.49, extent 22.86,0 25.4,2.54
3D body "PIN_mid.STEP": height 8.43, standoff -2.49, extent 25.4,0 27.94,2.54
3D body "PIN_mid.STEP": height 8.43, standoff -2.49, extent 27.94,0 30.48,2.54
3D body "PIN_mid.STEP": height 8.43, standoff -2.49, extent 30.48,0 33.02,2.54
3D body "PIN_mid.STEP": height 8.43, standoff -2.49, extent 33.02,0 35.56,2.54
3D body "PIN_mid.STEP": height 8.43, standoff -2.49, extent 35.56,0 38.1,2.54
3D body "PIN_mid.STEP": height 8.43, standoff -2.49, extent 38.1,0 40.64,2.54
3D body "PIN_mid.STEP": height 8.43, standoff -2.49, extent 40.64,0 43.18,2.54
3D body "PIN_mid.STEP": height 8.43, standoff -2.49, extent 43.18,0 45.72,2.54
3D body "PIN_mid.STEP": height 8.43, standoff -2.49, extent 45.72,0 48.26,2.54
3D body "PIN_mid.STEP": height 8.43, standoff -2.49, extent -48.26,0 -45.72,2.54
3D body "PIN_mid.STEP": height 8.43, standoff -2.49, extent -48.26,-2.54 -45.72,0
3D body "PIN_mid.STEP": height 8.43, standoff -2.49, extent -45.72,-2.54 -43.18,0
3D body "PIN_mid.STEP": height 8.43, standoff -2.49, extent -43.18,-2.54 -40.64,0
3D body "PIN_mid.STEP": height 8.43, standoff -2.49, extent -40.64,-2.54 -38.1,0
3D body "PIN_mid.STEP": height 8.43, standoff -2.49, extent -38.1,-2.54 -35.56,0
3D body "PIN_mid.STEP": height 8.43, standoff -2.49, extent -35.56,-2.54 -33.02,0
3D body "PIN_mid.STEP": height 8.43, standoff -2.49, extent -33.02,-2.54 -30.48,0
3D body "PIN_mid.STEP": height 8.43, standoff -2.49, extent -30.48,-2.54 -27.94,0
3D body "PIN_mid.STEP": height 8.43, standoff -2.49, extent -27.94,-2.54 -25.4,0
3D body "PIN_mid.STEP": height 8.43, standoff -2.49, extent -25.4,-2.54 -22.86,0
3D body "PIN_mid.STEP": height 8.43, standoff -2.49, extent -22.86,-2.54 -20.32,0
3D body "PIN_mid.STEP": height 8.43, standoff -2.49, extent -20.32,-2.54 -17.78,0
3D body "PIN_mid.STEP": height 8.43, standoff -2.49, extent -17.78,-2.54 -15.24,0
3D body "PIN_mid.STEP": height 8.43, standoff -2.49, extent -15.24,-2.54 -12.7,0
3D body "PIN_mid.STEP": height 8.43, standoff -2.49, extent -12.7,-2.54 -10.16,0
3D body "PIN_mid.STEP": height 8.43, standoff -2.49, extent -10.16,-2.54 -7.62,0
3D body "PIN_mid.STEP": height 8.43, standoff -2.49, extent -7.62,-2.54 -5.08,0
3D body "PIN_mid.STEP": height 8.43, standoff -2.49, extent -5.08,-2.54 -2.54,0
3D body "PIN_mid.STEP": height 8.43, standoff -2.49, extent -2.54,-2.54 0,0
3D body "PIN_mid.STEP": height 8.43, standoff -2.49, extent 0,-2.54 2.54,0
3D body "PIN_mid.STEP": height 8.43, standoff -2.49, extent 2.54,-2.54 5.08,0
3D body "PIN_mid.STEP": height 8.43, standoff -2.49, extent 5.08,-2.54 7.62,0
3D body "PIN_mid.STEP": height 8.43, standoff -2.49, extent 7.62,-2.54 10.16,0
3D body "PIN_mid.STEP": height 8.43, standoff -2.49, extent 10.16,-2.54 12.7,0
3D body "PIN_mid.STEP": height 8.43, standoff -2.49, extent 12.7,-2.54 15.24,0
3D body "PIN_mid.STEP": height 8.43, standoff -2.49, extent 15.24,-2.54 17.78,0
3D body "PIN_mid.STEP": height 8.43, standoff -2.49, extent 17.78,-2.54 20.32,0
3D body "PIN_mid.STEP": height 8.43, standoff -2.49, extent 20.32,-2.54 22.86,0
3D body "PIN_mid.STEP": height 8.43, standoff -2.49, extent 22.86,-2.54 25.4,0
3D body "PIN_mid.STEP": height 8.43, standoff -2.49, extent 25.4,-2.54 27.94,0
3D body "PIN_mid.STEP": height 8.43, standoff -2.49, extent 27.94,-2.54 30.48,0
3D body "PIN_mid.STEP": height 8.43, standoff -2.49, extent 30.48,-2.54 33.02,0
3D body "PIN_mid.STEP": height 8.43, standoff -2.49, extent 33.02,-2.54 35.56,0
3D body "PIN_mid.STEP": height 8.43, standoff -2.49, extent 35.56,-2.54 38.1,0
3D body "PIN_mid.STEP": height 8.43, standoff -2.49, extent 38.1,-2.54 40.64,0
3D body "PIN_mid.STEP": height 8.43, standoff -2.49, extent 40.64,-2.54 43.18,0
3D body "PIN_mid.STEP": height 8.43, standoff -2.49, extent 43.18,-2.54 45.72,0
3D body "PIN_mid.STEP": height 8.43, standoff -2.49, extent 45.72,-2.54 48.26,0
3D body "PIN.STEP": height 8.43, standoff -2.49, extent -50.8,0 -48.26,2.54
3D body "PIN.STEP": height 8.43, standoff -2.49, extent 48.26,0 50.8,2.54
3D body "PIN.STEP": height 8.43, standoff -2.49, extent 48.26,-2.54 50.8,0